# Altium footprint library aistlab.PcbLib: 36 footprints (part 3 of 3)
Each footprint in its own frame and in the unit in brackets; x right, y up, seen from the top. Pads: shape width x height; smd on the part's side, far side on the other; paste and mask are expansions set on the pad; w line width, h text height; cw(c..) or ccw(c..) is an arc to the next point about the centre after c.
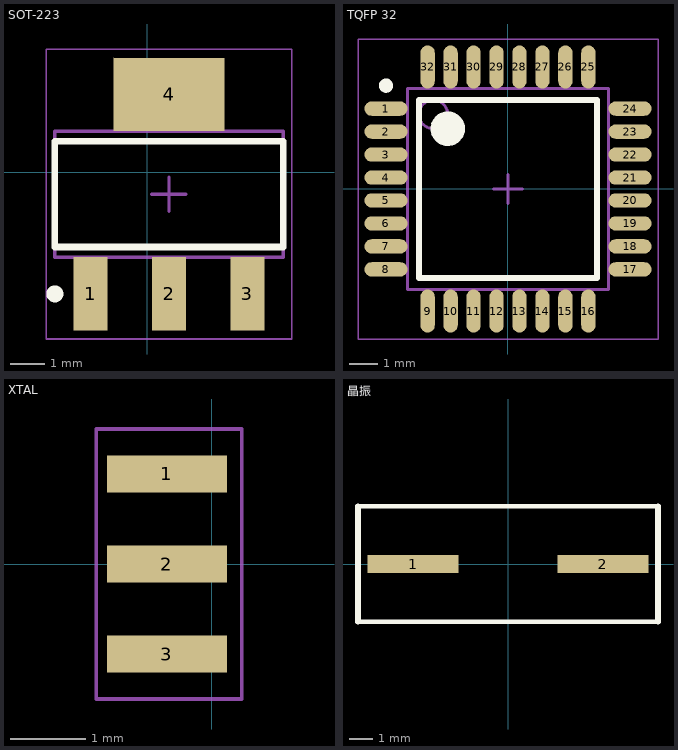
[diagram p2: the footprints below, top view; thin cyan lines are the x and y axes]

## SOT-223 [mm] "ASM1117,"
height 1.8
pads (4):
  rect 1x2.15 smd: 1(-1.665,-3.56) 2(0.635,-3.56) 3(2.935,-3.56)
  rect 3.25x2.15 smd: 4(0.635,2.29)
Top Overlay:
  circle w0.25: c-2.715,-3.56 r0.125
  lines w0.2: -2.715,-2.185 -2.715,0.915 3.985,0.915 3.985,-2.185 -2.715,-2.185
Mechanical 13:
  lines w0.1: -2.715,-2.485 -2.715,1.215 3.985,1.215 3.985,-2.485 -2.715,-2.485
Mechanical 15:
  lines w0.05: -2.965,-4.885 -2.965,3.615 4.235,3.615 4.235,-4.885 -2.965,-4.885
  lines w0.1: 0.135,-0.635 1.135,-0.635 ; 0.635,-1.135 0.635,-0.135
3D body "User Library-SOT233.step": height 1.7, standoff 0, extent -2.715,-4.285 3.985,3.015

## TQFP 32 [mm] "ATMEL 328P"
height 1.2
pads (32):
  oval 1.5x0.5 smd: 1(-4.25,2.8) 2(-4.25,2) 3(-4.25,1.2) 4(-4.25,0.4) 5(-4.25,-0.4) 6(-4.25,-1.2) 7(-4.25,-2) 8(-4.25,-2.8) 17(4.25,-2.8) 18(4.25,-2) 19(4.25,-1.2) 20(4.25,-0.4) 21(4.25,0.4) 22(4.25,1.2) 23(4.25,2) 24(4.25,2.8)
  oval 0.5x1.5 smd: 9(-2.8,-4.25) 10(-2,-4.25) 11(-1.2,-4.25) 12(-0.4,-4.25) 13(0.4,-4.25) 14(1.2,-4.25) 15(2,-4.25) 16(2.8,-4.25) 25(2.8,4.25) 26(2,4.25) 27(1.2,4.25) 28(0.4,4.25) 29(-0.4,4.25) 30(-1.2,4.25) 31(-2,4.25) 32(-2.8,4.25)
Top Overlay:
  circle w0.25: c-4.25,3.6 r0.125
  circle w0.6: c-2.1,2.1 r0.3
  lines w0.2: -3.1,-3.1 -3.1,3.1 3.1,3.1 3.1,-3.1 -3.1,-3.1
Mechanical 13:
  circle w0.1: c-2.6,2.6 r0.5
  lines w0.1: -3.5,-3.5 -3.5,3.5 3.5,3.5 3.5,-3.5 -3.5,-3.5
Mechanical 15:
  lines w0.05: -5.225,-5.225 -5.225,5.225 5.225,5.225 5.225,-5.225 -5.225,-5.225
  lines w0.1: -0.5,0 0.5,0 ; 0,-0.5 0,0.5
3D body "User Library-LQFP32-2.STEP": height 1.62, standoff -0.01, extent -4.572,-4.572 4.572,4.572

## XTAL [mm] "Chip Array, ConvexE, 6-Leads, Pitch 1.20mm,  Body 3.20x1.50mm,  IPC Medium Density"
height 0.6
pads (3):
  rect 1.6x0.5 smd: 1(-0.6,1.2) 2(-0.6,0) 3(-0.6,-1.2)
Mechanical 15:
  lines w0.05: -1.54,-1.8 0.4,-1.8 0.4,1.8 -1.54,1.8 -1.54,-1.8

## 晶振 [mm]
pads (2):
  rect 3.95x0.8 smd: 1(-4.115,0) 2(4.115,0)
Top Overlay:
  lines w0.2: -6.5,-2.5 6.5,-2.5 ; -6.5,2.5 6.5,2.5
  lines w0.254: -6.5,-2.5 -6.5,2.5 ; 6.5,-2.5 6.5,2.5